# Altium schematic symbol library Logo.SchLib: 7 symbols
Pins are listed as number, name and electrical type; pins without a type are passive.

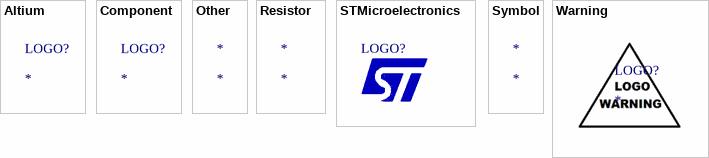
[diagram p0: symbols Altium to Warning]

## Altium
designator LOGO?
footprint Altium 2 (Footprint not found)
footprint Altium 1 (Footprint not found)

## Component
designator LOGO?
footprint Bluetooth
footprint DC JACK
footprint Headphone
footprint Microphone
footprint Reset
footprint SPEAKER
footprint USB-1 (General USB Logo)
footprint USB-2 (High Speed USB Logo)
footprint USB-3 (USB Certified Logo)

## Other
designator *
footprint Energy
footprint Wizard
footprint Thunder
footprint PCB Rules
footprint Legace
footprint Payanak

## Resistor
designator *
footprint SILK_DEC_ARC
footprint SILK_DEC_LINE
footprint SILK_INC_ARC
footprint SILK_INC_LINE
footprint SILK_SCALE_100
footprint SILK_SCALE_100 - Minor
footprint SILK_SCALE_110
footprint SILK_SCALE_110 - minor
footprint SILK_SCALE_30
footprint SILK_SCALE_40
footprint SILK_SCALE_50
footprint SILK_SCALE_60
footprint SILK_SCALE_70
footprint SILK_SCALE_80
footprint SILK_SCALE_90
footprint SILK_SCALE_70 - Minor
footprint SILK_SCALE_80 - Minor
footprint SILK_SCALE_90 - Minor

## STMicroelectronics
designator LOGO?  (no BOM)
footprint ST-Mini-Silver
footprint ST-MICRO-SILVER
footprint ST-MINI-White
footprint ST-Silver

## Symbol
designator *
footprint WEEE

## Warning
designator LOGO?
footprint Warning Sensitive Devices
footprint Warning
footprint Warning ESD
footprint WARNING High Voltage